# Altium footprint library 155060BS75300.PcbLib: 1 footprints
Each footprint in its own frame and in the unit in brackets; x right, y up, seen from the top. Pads: shape width x height; smd on the part's side, far side on the other; paste and mask are expansions set on the pad; w line width, h text height; cw(c..) or ccw(c..) is an arc to the next point about the centre after c.
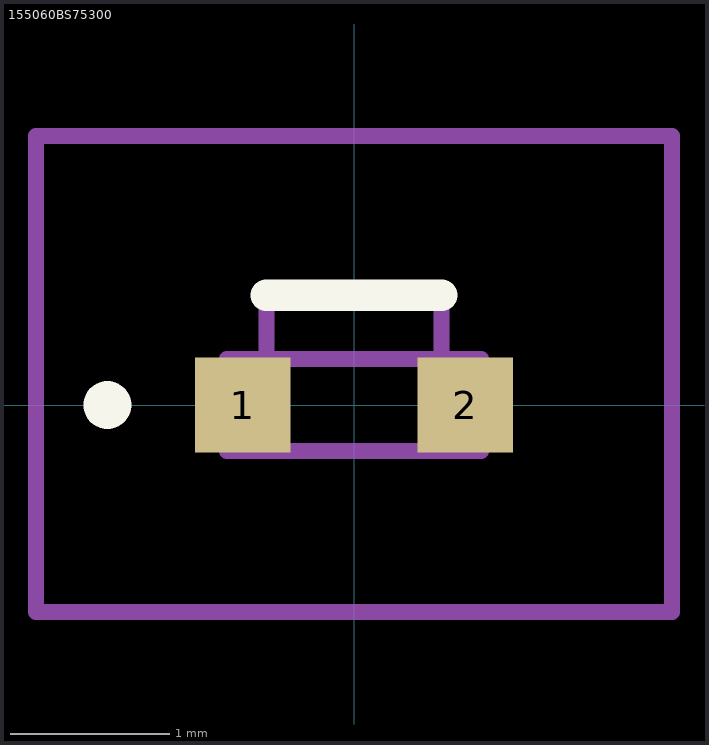
[diagram p0: the footprint, top view; thin cyan lines are the x and y axes]

## 155060BS75300 [mm]
pads (2):
  rect 0.6x0.6 smd: 1(-0.7,0) 2(0.7,0)
Top Overlay:
  lines w0.2: -0.55,0.69 0.55,0.69 ; -1.6,0 -1.6,0 ; -1.6,0 ccw(c-1.55,0) -1.5,0 ; -1.6,0 cw(c-1.55,0) -1.5,0 ; -1.6,0 -1.5,0 ; -1.5,0 -1.5,0
Mechanical 15:
  lines w0.1: -0.8,-0.29 0.8,-0.29 0.8,0.29 -0.8,0.29 -0.8,-0.29 ; -0.55,0.29 0.55,0.29 0.55,0.69 -0.55,0.69 -0.55,0.29
Mechanical 20:
  lines w0.1: -2,-1.3 2,-1.3 2,1.69 -2,1.69 -2,-1.3